# Altium integrated library IC_STM8.IntLib: 3 symbols
Pins are listed as number, name and electrical type; pins without a type are passive.

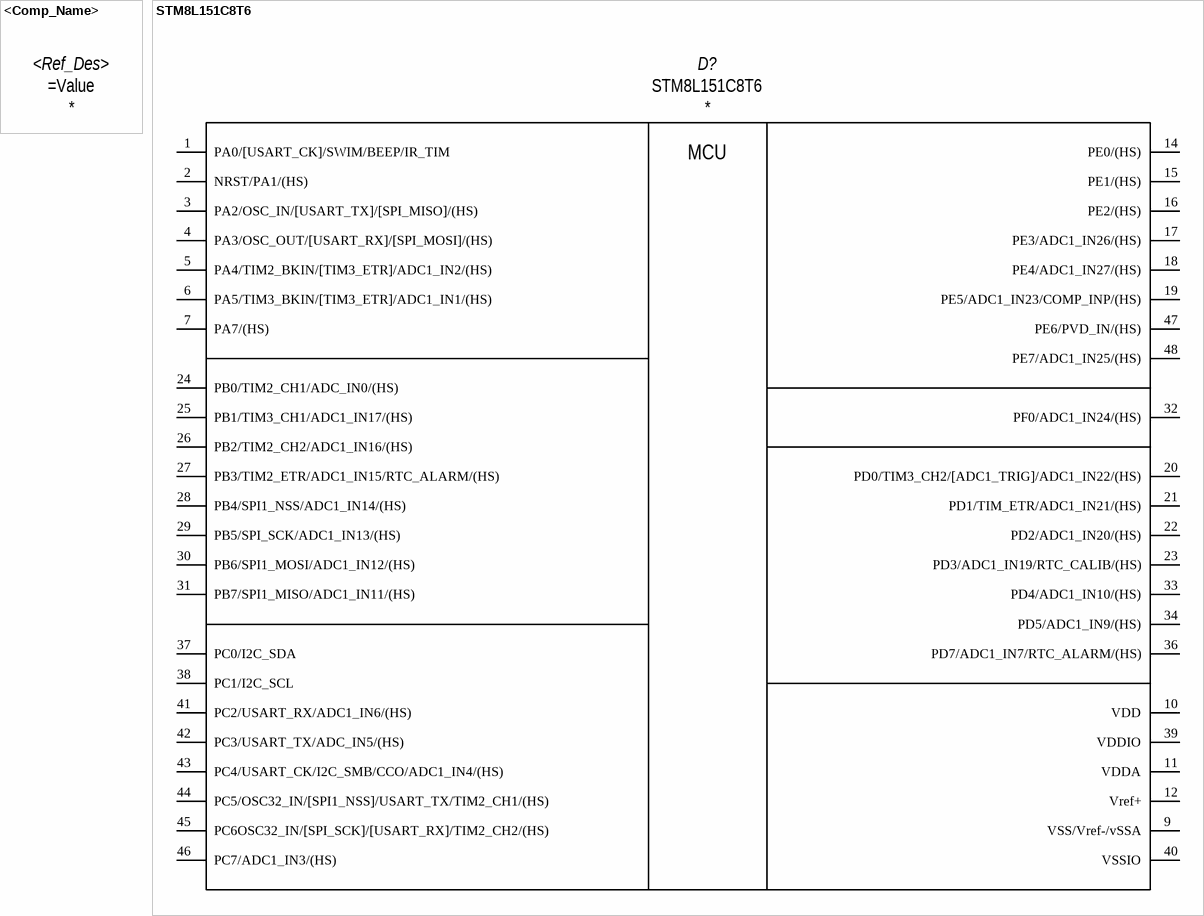
[diagram p0: symbols <Comp_Name> to STM8L151C8T6]

## <Comp_Name>
designator <Ref_Des>
<element_assignmen>; Manufacturer: *; HelpURL: *; Value: =Value

## STM8L151C8T6
designator D?  value STM8L151C8T6
8-bit ultralow power MCU; Manufacturer: STMicroelectronics; HelpURL: https://static.chipdip.ru/lib/034/DOC001034128.pdf
footprint LQFP48 (LQFP32 7x7mm Package, Pitch 0.5mm, 48 Lead)
pins: 1 PA0/[USART_CK]/SWIM/BEEP/IR_TIM, 2 NRST/PA1/(HS), 3 PA2/OSC_IN/[USART_TX]/[SPI_MISO]/(HS), 4 PA3/OSC_OUT/[USART_RX]/[SPI_MOSI]/(HS), 5 PA4/TIM2_BKIN/[TIM3_ETR]/ADC1_IN2/(HS), 6 PA5/TIM3_BKIN/[TIM3_ETR]/ADC1_IN1/(HS), 7 PA7/(HS), 9 VSS/Vref-/vSSA (power), 10 VDD (power), 11 VDDA (power), 12 Vref+ (power), 14 PE0/(HS), 15 PE1/(HS), 16 PE2/(HS), 17 PE3/ADC1_IN26/(HS), 18 PE4/ADC1_IN27/(HS), 19 PE5/ADC1_IN23/COMP_INP/(HS), 20 PD0/TIM3_CH2/[ADC1_TRIG]/ADC1_IN22/(HS), 21 PD1/TIM_ETR/ADC1_IN21/(HS), 22 PD2/ADC1_IN20/(HS), 23 PD3/ADC1_IN19/RTC_CALIB/(HS), 24 PB0/TIM2_CH1/ADC_IN0/(HS), 25 PB1/TIM3_CH1/ADC1_IN17/(HS), 26 PB2/TIM2_CH2/ADC1_IN16/(HS), 27 PB3/TIM2_ETR/ADC1_IN15/RTC_ALARM/(HS), 28 PB4/SPI1_NSS/ADC1_IN14/(HS), 29 PB5/SPI_SCK/ADC1_IN13/(HS), 30 PB6/SPI1_MOSI/ADC1_IN12/(HS), 31 PB7/SPI1_MISO/ADC1_IN11/(HS), 32 PF0/ADC1_IN24/(HS), 33 PD4/ADC1_IN10/(HS), 34 PD5/ADC1_IN9/(HS), 36 PD7/ADC1_IN7/RTC_ALARM/(HS), 37 PC0/I2C_SDA, 38 PC1/I2C_SCL, 39 VDDIO (power), 40 VSSIO (power), 41 PC2/USART_RX/ADC1_IN6/(HS), 42 PC3/USART_TX/ADC_IN5/(HS), 43 PC4/USART_CK/I2C_SMB/CCO/ADC1_IN4/(HS), 44 PC5/OSC32_IN/[SPI1_NSS]/USART_TX/TIM2_CH1/(HS), 45 PC6OSC32_IN/[SPI_SCK]/[USART_RX]/TIM2_CH2/(HS), 46 PC7/ADC1_IN3/(HS), 47 PE6/PVD_IN/(HS), 48 PE7/ADC1_IN25/(HS)
text: MCU

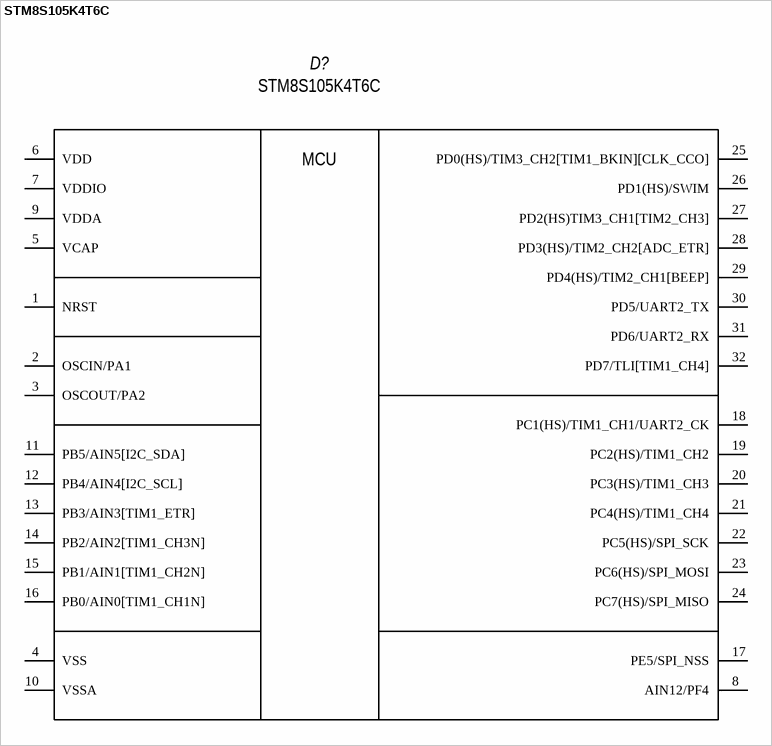
[diagram p1: symbol STM8S105K4T6C]

## STM8S105K4T6C
designator D?  value STM8S105K4T6C  (hidden comment: *)
MCU 8bit, STM8 CISC, Package LQFP-32; Manufacturer: ST Microelectronics; HelpURL: https://www.st.com/resource/en/datasheet/stm8s105k4.pdf
footprint LQFP32 (LQFP32 Package, Pitch 0.8mm, 32 Lead)
pins: 1 NRST, 2 OSCIN/PA1, 3 OSCOUT/PA2, 4 VSS, 5 VCAP, 6 VDD, 7 VDDIO, 8 AIN12/PF4, 9 VDDA, 10 VSSA, 11 PB5/AIN5[I2C_SDA], 12 PB4/AIN4[I2C_SCL], 13 PB3/AIN3[TIM1_ETR], 14 PB2/AIN2[TIM1_CH3N], 15 PB1/AIN1[TIM1_CH2N], 16 PB0/AIN0[TIM1_CH1N], 17 PE5/SPI_NSS, 18 PC1(HS)/TIM1_CH1/UART2_CK, 19 PC2(HS)/TIM1_CH2, 20 PC3(HS)/TIM1_CH3, 21 PC4(HS)/TIM1_CH4, 22 PC5(HS)/SPI_SCK, 23 PC6(HS)/SPI_MOSI, 24 PC7(HS)/SPI_MISO, 25 PD0(HS)/TIM3_CH2[TIM1_BKIN][CLK_CCO], 26 PD1(HS)/SWIM, 27 PD2(HS)TIM3_CH1[TIM2_CH3], 28 PD3(HS)/TIM2_CH2[ADC_ETR], 29 PD4(HS)/TIM2_CH1[BEEP], 30 PD5/UART2_TX, 31 PD6/UART2_RX, 32 PD7/TLI[TIM1_CH4]
text: MCU